# Altium footprint library PcbLibArduino.PcbLib: 19 footprints (part 1 of 2)
Each footprint in its own frame and in the unit in brackets; x right, y up, seen from the top. Pads: shape width x height; smd on the part's side, far side on the other; paste and mask are expansions set on the pad; w line width, h text height; cw(c..) or ccw(c..) is an arc to the next point about the centre after c.
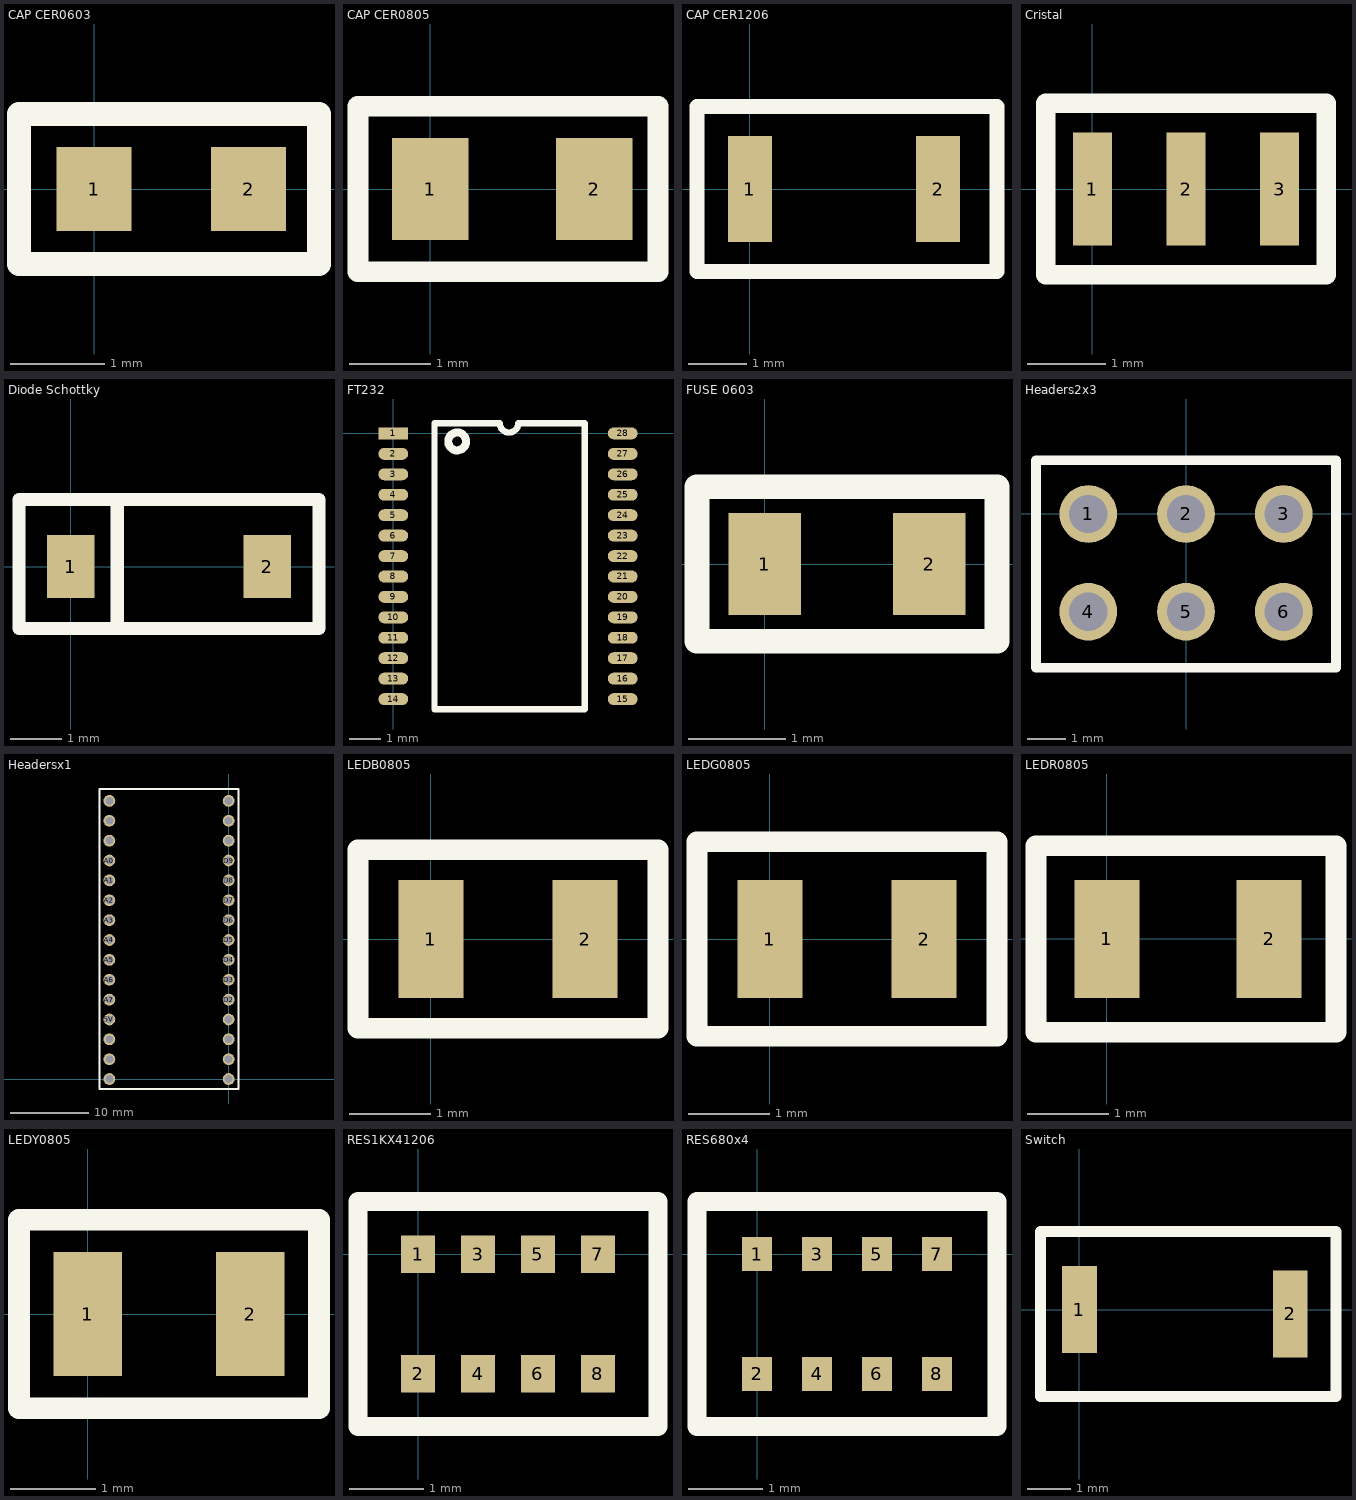
[diagram p0: the footprints below, top view; thin cyan lines are the x and y axes]

## CAP CER0603 [mm] "CAP CER 4.7UF 10V Y5V 0603"
pads (2):
  rect 0.8x0.9 smd: 1(0,0) 2(1.65,0)
Top Overlay:
  lines w0.254: -0.8,-0.8 -0.8,0.8 2.4,0.8 2.4,-0.8 -0.8,-0.8
3D body "cap_0603.step": height 0.86, standoff 0, extent 0,-0.4 1.6,0.4

## CAP CER0805 [mm] "CAP CER 0.1UF 50V X7R 0805"
pads (2):
  rect 0.94x1.25 smd: 1(0,0) 2(2.01,0)
Top Overlay:
  lines w0.254: -0.889,-1.016 2.794,-1.016 2.794,1.016 -0.889,1.016 -0.889,-1.016
3D body "cap_0805.step": height 1.27, standoff 0, extent 0.016,-0.65 2.016,0.65

## CAP CER1206 [mm] "CAP CER 0.1UF 50V X7R 0805"
pads (2):
  rect 0.75x1.8 smd: 1(0,0) 2(3.2,0)
Top Overlay:
  lines w0.254: -0.9,-1.4 4.2,-1.4 4.2,1.4 -0.9,1.4 -0.9,-1.4
3D body "cap_1206.step": height 1.4, standoff 0, extent 0,-0.8 3.2,0.8

## Cristal [mm] "Resonadores RECOMMENDED ALT 81-CSTNE16M0V530000R"
pads (3):
  rect 0.5x1.45 smd: 1(0,0) 2(1.2,0) 3(2.4,0)
Top Overlay:
  lines w0.254: -0.6,-1.1 -0.6,1.1 3,1.1 3,-1.1 -0.6,-1.1

## Diode Schottky [mm] "DIODE SCHOTTKY 20V 500MA SOD123"
pads (2):
  rect 0.91x1.22 smd: 1(0,0) 2(3.8,0)
Top Overlay:
  lines w0.254: 0.9,-1.2 0.9,1.3 ; -1,-1.2 4.8,-1.2 4.8,1.3 -1,1.3 -1,-1.2
3D body "sod-123.step": height 1.15, standoff 0, extent 0,-0.8 3.8,0.8

## FT232 [mm]
pads (28):
  rect 0.95x0.38 smd: 1(0,0)
  oval 0.95x0.38 smd: 2(0,-0.65) 3(0,-1.3) 4(0,-1.95) 5(0,-2.6) 6(0,-3.25) 7(0,-3.9) 8(0,-4.55) 9(0,-5.2) 10(0,-5.85) 11(0,-6.5) 12(0,-7.15) 13(0,-7.8) 14(0,-8.45) 15(7.3,-8.45) 16(7.3,-7.8) 17(7.3,-7.15) 18(7.3,-6.5) 19(7.3,-5.85) 20(7.3,-5.2) 21(7.3,-4.55) 22(7.3,-3.9) 23(7.3,-3.25) 24(7.3,-2.6) 25(7.3,-1.95) 26(7.3,-1.3) 27(7.3,-0.65) 28(7.3,0)
Top Overlay:
  circle w0.254: c2.032,-0.254 r0.284
  lines w0.2: 1.31,-8.775 4.29,-8.775 6.096,-8.775 6.096,-6.4 6.096,-4.694 6.096,-3.756 6.096,0.325 3.977,0.325 cw(c3.683,0.325) 3.389,0.325 1.31,0.325 1.31,-8.775
3D body "ft232rl-reel.stp": height 1.85, standoff 0, extent -0.217,-9.311 7.583,0.889

## FUSE 0603 [mm] "PTC RESET FUSE 6V 500MA 0603"
pads (2):
  rect 0.75x1.05 smd: 1(0,0) 2(1.7,0)
Top Overlay:
  lines w0.254: -0.7,-0.8 2.4,-0.8 2.4,0.8 -0.7,0.8 -0.7,-0.8
3D body "User Library-MF-FSMF020X_FUSE0603.step": height 0.53, standoff 0, extent -0.025,-0.425 1.625,0.425

## Headers2x3 [mm]
pads (6):
  round 1.5 hole 1: 1(-2.54,0) 2(0,0) 3(2.54,0) 4(-2.54,-2.54) 5(0,-2.54) 6(2.54,-2.54)
Top Overlay:
  lines w0.254: -3.9,-4 -3.9,1.4 3.9,1.4 3.9,-4 -3.9,-4
3D body "Header2x3 v1.step": height 8.5, standoff -3.5, extent -3.84,-3.8 3.78,1.2

## Headersx1 [mm] "Headers, 36PS 1 Row"
pads (30):
  round 1.5 hole 1: 3V3(-15.24,33.02) 5V(-15.24,7.62) A0(-15.24,27.94) A1(-15.24,25.4) A2(-15.24,22.86) A3(-15.24,20.32) A4(-15.24,17.78) A5(-15.24,15.24) A6(-15.24,12.7) A7(-15.24,10.16) D2(0,10.16) D3(0,12.7) D4(0,15.24) D5(0,17.78) D6(0,20.32) D7(0,22.86) D8(0,25.4) D9(0,27.94) D10(0,30.48) D11(0,33.02) D12(0,35.56) D13(-15.24,35.56) GND(-15.24,2.54) GND(0,7.62) REF(-15.24,30.48) RST(-15.24,5.08) RST(0,5.08) RX0(0,2.54) TX1(0,0) VIN(-15.24,0)
Top Overlay:
  lines w0.254: -16.51,-1.27 1.27,-1.27 1.27,37.084 -16.51,37.084 -16.51,-1.27
3D body "Headers1x15.step": height 3, standoff -9, extent -1.27,-1.27 1.27,36.83
3D body "Headers1x15.step": height 3, standoff -9, extent -16.51,-1.27 -13.97,36.83

## LEDB0805 [mm] "LED BLUE CLEAR 0805 SMD"
pads (2):
  rect 0.8x1.45 smd: 1(0,0) 2(1.9,0)
Top Overlay:
  lines w0.254: -0.9,-1.1 2.8,-1.1 2.8,1.1 -0.9,1.1 -0.9,-1.1
3D body "everlight-17-21-0805LED-BLUE.step": height 1.1, standoff -0.01, extent 0,-0.625 2,0.625

## LEDG0805 [mm] "LED GREEN CLEAR 0805 SMD"
pads (2):
  rect 0.8x1.45 smd: 1(0,0) 2(1.9,0)
Top Overlay:
  lines w0.254: -0.9,-1.2 2.8,-1.2 2.8,1.2 -0.9,1.2 -0.9,-1.2
3D body "everlight-17-21-0805LED-GREEN.step": height 1.1, standoff -0.01, extent 0,-0.625 2,0.625

## LEDR0805 [mm] "LED RED CLEAR 0805 SMD"
pads (2):
  rect 0.8x1.45 smd: 1(0,0) 2(2,0)
Top Overlay:
  lines w0.254: -0.875,-1.15 2.825,-1.15 2.825,1.15 -0.875,1.15 -0.875,-1.15
3D body "everlight-17-21-0805LED-red.step": height 1.1, standoff -0.01, extent 0,-0.625 2,0.625

## LEDY0805 [mm] "LED YELLOW CLEAR 0805 SMD"
pads (2):
  rect 0.8x1.45 smd: 1(0,0) 2(1.9,0)
Top Overlay:
  lines w0.254: -0.8,-1.1 2.7,-1.1 2.7,1.1 -0.8,1.1 -0.8,-1.1
3D body "everlight-17-21-0805LED-YELLOW.step": height 1.1, standoff -0.01, extent 0,-0.625 2,0.625

## RES1KX41206 [mm] "RES ARRAY 4 RES 1K OHM 1206"
pads (8):
  rect 0.45x0.5 smd: 1(0,0) 2(0,-1.6) 3(0.8,0) 4(0.8,-1.6) 5(1.6,0) 6(1.6,-1.6) 7(2.4,0) 8(2.4,-1.6)
Top Overlay:
  lines w0.254: -0.8,-2.3 3.2,-2.3 3.2,0.7 -0.8,0.7 -0.8,-2.3
3D body "rescax-8_1.6x3.2x0.8.step": height 0.5, standoff 0, extent -0.4,-1.6 2.8,0

## RES680x4 [mm] "RES ARRAY 4 RES 680 OHM 1206"
pads (8):
  rect 0.4x0.45 smd: 1(0,0) 2(0,-1.6) 3(0.8,0) 4(0.8,-1.6) 5(1.6,0) 6(1.6,-1.6) 7(2.4,0) 8(2.4,-1.6)
Top Overlay:
  lines w0.254: -0.8,-2.3 -0.8,0.7 3.2,0.7 3.2,-2.3 -0.8,-2.3
3D body "rescax-8_1.6x3.2x0.8.step": height 0.5, standoff 0, extent -0.4,-1.6 2.8,0

## Switch [mm] "688-SKRKAE"
pads (2):
  rect 0.8x2 smd: 1(0,0) 2(4.85,-0.1)
Top Overlay:
  lines w0.254: -0.9,-2 5.9,-2 5.9,1.8 -0.9,1.8 -0.9,-2
3D body "User Library-Pushbutton3x4x2.step": height 2, standoff 0, extent -0.05,-1.55 4.85,1.35